# Altium schematic symbol library BJT_ROHM_EMT52T2R_100mA_PNP.SchLib: 1 symbol
Pins are listed as number, name and electrical type; pins without a type are passive.

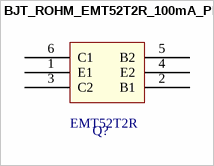
[diagram p0: symbol BJT_ROHM_EMT52T2R_100mA_PNP]

## BJT_ROHM_EMT52T2R_100mA_PNP
designator Q?  Series: EMT52T2R  (hidden comment: BJT_ROHM_EMT52T2R_100mA_PNP)
Bipolar Transistors - BJT Bipolar Transistor SOT-563 SC-107C EMT6; Manufacturer 1: ROHM; Supplier 1: Mouser; Supplier Part Number 1: 755-EMT52T2R; Manufacturer Part Number 1: EMT52T2R
footprint BJT_ROHM_EMT52T2R_100mA_PNP (Bipolar Transistors - BJT Bipolar Transistor SOT-563 SC-107C EMT6)
pins: 1 E1, 2 B1, 3 C2, 4 E2, 5 B2, 6 C1